# EAGLE library part WEH0001602OLEP (library 000_nl2)
WEH001602E OLED Character Display 16x2 This is the module that comes from the PICAXE store AXE133Y <http://www.picaxe.com/Hardware/Add-on-Modules/Budget-Serial-OLED-Module/> This variant is used for placing the display under the board and displaying through the PCB via a milled cutout. WEH001602E.pdf <http://www.winstar.com.tw/products_detail_ov.php?lang=en&ProID=284>
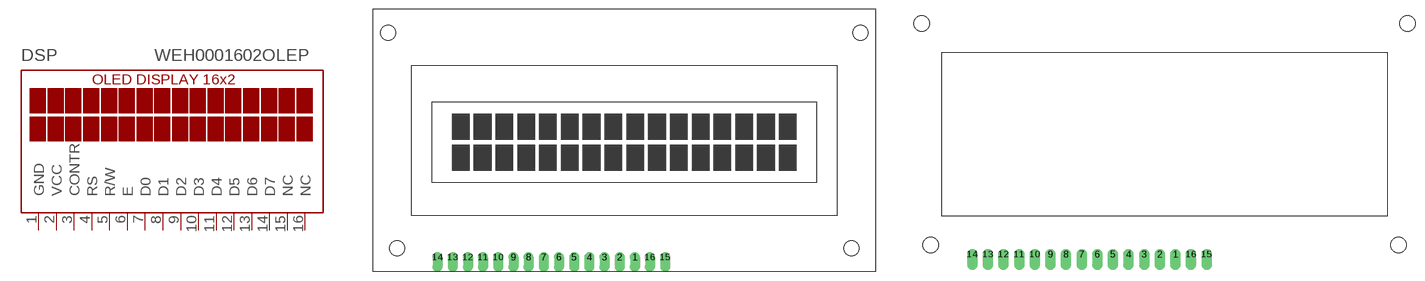
[diagram p9: symbol with the pads of 16X02_OLED_DISPLAY; footprints 16X02_OLED_DISPLAY, 16X02_OLED_DISPLAY_CUTOUT]

Designator prefix DSP

## WEH0001602OLEP_TOP  [16X02_OLED_DISPLAY]
1  GND  pwr
2  VCC  pwr
3  CONTR  in
4  RS  in
5  R/W  in
6  E  in
7  D0  in
8  D1  in
9  D2  in
10  D3  in
11  D4  in
12  D5  in
13  D6  in
14  D7  in
15  NC  nc
16  NC  nc

## WEH0001602OLEP_BOTTOM  [16X02_OLED_DISPLAY_CUTOUT]
Pads as for 16X02_OLED_DISPLAY

## Footprint 16X02_OLED_DISPLAY (pad centres in mm)
drill 1.1 pad 1.676 offset: 1 1.76,-19.5; 2 -0.78,-19.5; 3 -3.32,-19.5; 4 -5.86,-19.5; 5 -8.4,-19.5; 6 -10.94,-19.5; 7 -13.48,-19.5; 8 -16.02,-19.5; 9 -18.56,-19.5; 10 -21.1,-19.5; 11 -23.64,-19.5; 12 -26.18,-19.5; 13 -28.72,-19.5; 14 -31.26,-19.5; 15 6.84,-19.5; 16 4.3,-19.5
hole 2.5 at -38,-18
hole 2.5 at 38,-18
hole 2.5 at -39.5,18
hole 2.5 at 39.5,18

## Footprint 16X02_OLED_DISPLAY_CUTOUT (pad centres in mm)
drill 1.1 pad 1.676 offset: 1 1.76,-19.5; 2 -0.78,-19.5; 3 -3.32,-19.5; 4 -5.86,-19.5; 5 -8.4,-19.5; 6 -10.94,-19.5; 7 -13.48,-19.5; 8 -16.02,-19.5; 9 -18.56,-19.5; 10 -21.1,-19.5; 11 -23.64,-19.5; 12 -26.18,-19.5; 13 -28.72,-19.5; 14 -31.26,-19.5; 15 6.84,-19.5; 16 4.3,-19.5
hole 2.5 at -38,-18
hole 2.5 at 38,-18
hole 2.5 at -39.5,18
hole 2.5 at 39.5,18